# Altium integrated library IHLP2525CZER4R7M01.IntLib: 2 symbols
Pins are listed as number, name and electrical type; pins without a type are passive.

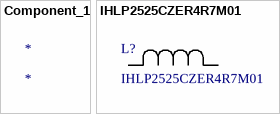
[diagram p0: symbols Component_1 to IHLP2525CZER4R7M01]

## Component_1
designator *

## IHLP2525CZER4R7M01
designator L?
No Description Available; Vendor: Vishay; Built_By: EMA_UL_Team; Type: DEV; Manufacturer_Part_Number: IHLP2525CZER4R7M01; Copyright: Copyright (C) 2018 Accelerated Designs. All rights reserved; RefDes: RefDes
footprint IND25X25CZ
pins: 1, 2